# Altium schematic symbol library conn.SchLib: 1 symbol
Pins are listed as number, name and electrical type; pins without a type are passive.

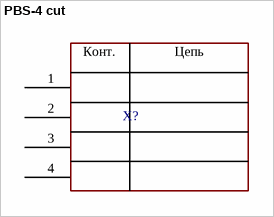
[diagram p0: symbol PBS-4 cut]

## PBS-4 cut
designator X?  (value not drawn)
footprint PBS-4 CUT
pins: 1, 2, 3, 4
text: Конт.; Цепь